# Altium footprint library ELEC(16.0X21.8)-AV.PcbLib: 1 footprints
Each footprint in its own frame and in the unit in brackets; x right, y up, seen from the top. Pads: shape width x height; smd on the part's side, far side on the other; paste and mask are expansions set on the pad; w line width, h text height; cw(c..) or ccw(c..) is an arc to the next point about the centre after c.
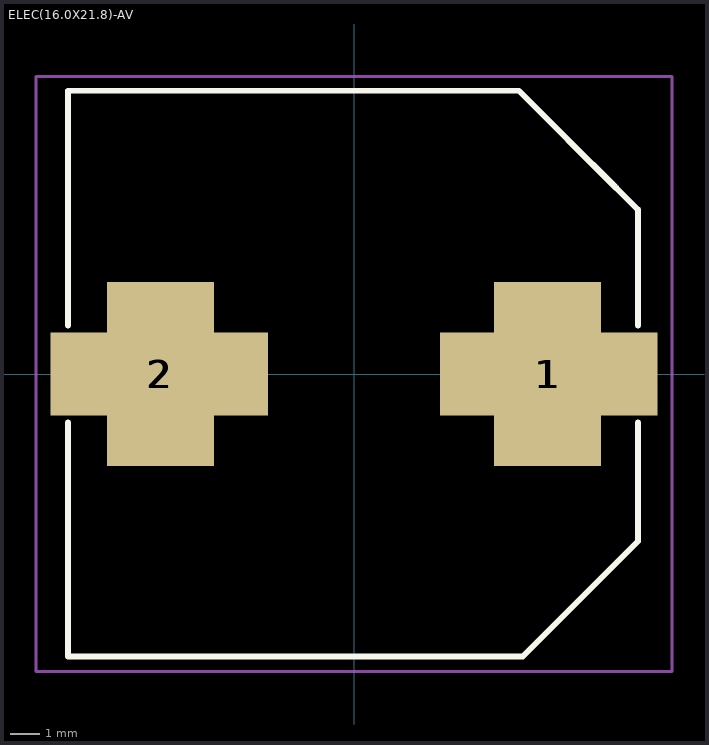
[diagram p0: the footprint, top view; thin cyan lines are the x and y axes]

## ELEC(16.0X21.8)-AV [mm]
pads (4):
  rect 3.6x6.2 smd: 1(6.5,0) 2(-6.5,0)
  rect 7.3x2.8 smd: 1(6.55,0) 2(-6.55,0)
Top Overlay:
  lines w0.2: -9.625,-1.625 -9.625,-9.5 5.675,-9.5 9.55,-5.625 9.55,-1.625 ; -9.625,1.625 -9.625,9.525 5.55,9.525 8.825,6.25 ; 8.025,7.05 9.55,5.525 ; 9.55,1.625 9.55,5.525 ; 9.55,4.375 9.55,5.525
Top Courtyard:
  lines w0.1: -10.7,-10 10.7,-10 10.7,10 10.2,10 -10.7,10 -10.7,-10
3D body "EEE-TP1K681M.stp": height 21.5, standoff 0, extent -10.2,-9.5 10.2,9.5